# Altium schematic symbol library SIM800C.Schlib: 1 symbol
Pins are listed as number, name and electrical type; pins without a type are passive.

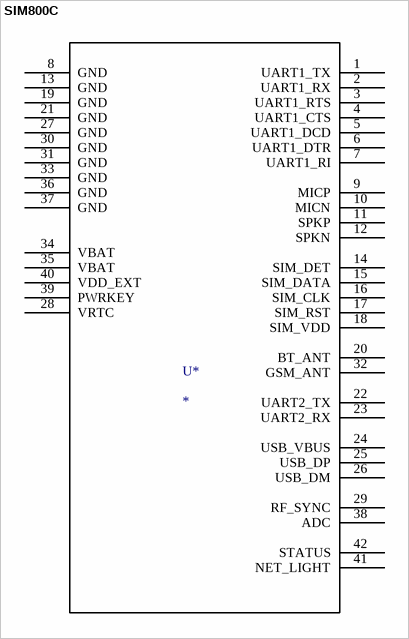
[diagram p0: symbol SIM800C]

## SIM800C
designator U*
ComponentLink1Description: LCSC - SIMCom Wireless Solutions SIM800C 24Mbit; ComponentLink1URL: https://lcsc.com/product-detail/Communication-Modules-GNSS-Modules_SIMCom-Wireless-Solutions-SIM800C-24Mbit_C69119.html
footprint SIM800C
pins: 1 UART1_TX, 2 UART1_RX, 3 UART1_RTS, 4 UART1_CTS, 5 UART1_DCD, 6 UART1_DTR, 7 UART1_RI, 8 GND, 9 MICP, 10 MICN, 11 SPKP, 12 SPKN, 13 GND, 14 SIM_DET, 15 SIM_DATA, 16 SIM_CLK, 17 SIM_RST, 18 SIM_VDD, 19 GND, 20 BT_ANT, 21 GND, 22 UART2_TX, 23 UART2_RX, 24 USB_VBUS, 25 USB_DP, 26 USB_DM, 27 GND, 28 VRTC, 29 RF_SYNC, 30 GND, 31 GND, 32 GSM_ANT, 33 GND, 34 VBAT, 35 VBAT, 36 GND, 37 GND, 38 ADC, 39 PWRKEY, 40 VDD_EXT, 41 NET_LIGHT, 42 STATUS